# Altium schematic symbol library kmilo17pet-TI_RS232.SchLib: 1272 symbols (part 4 of 37)
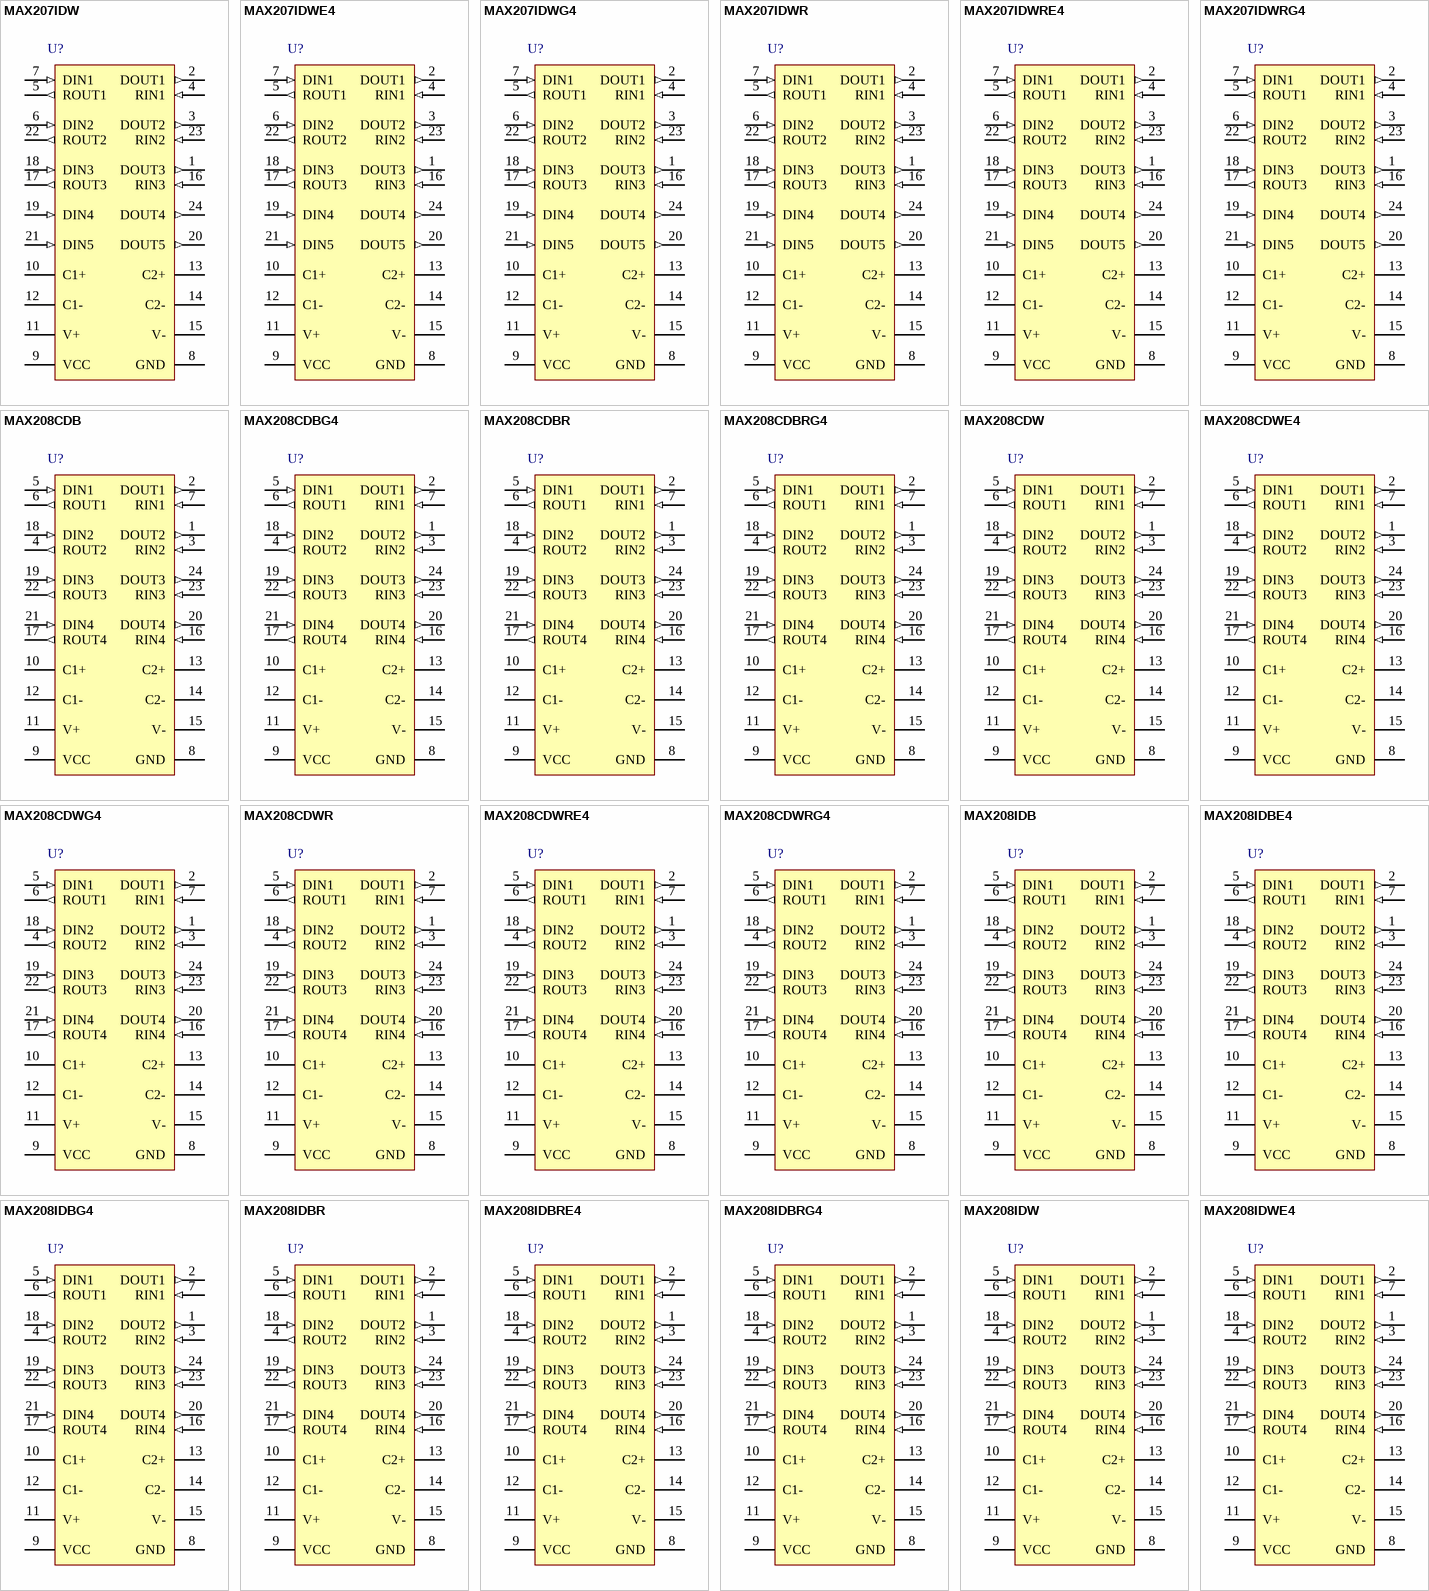
[diagram p57: symbols MAX207IDW to MAX208IDWE4]

## MAX208CDB
designator U?
5-V Multichannel RS-232 Line Driver / Receiver with ±15-kV ESD Protection, 0 to 70 degC, 24-Pin SSOP (DB), Green (RoHS & no Sb/Br); Drivers Per Package: 4; Supply Voltage(s)(V): 5; ESD HBM(kV): +/-15; ICC(Max)(mA): 20; Single Supply: TRUE; DatasheetVersion: SLLS596C; PackageVersion: revE, Dec-2001; PackageReference: DB24; PackageDescription: 24-Pin Plastic Small Outline Package, 8.2 x 5.3 mm Body, 0.65 mm Pitch; SubFamily: RS-232; Receivers Per Package: 4; RS-232: TRUE; ComponentLink1Description: Manufacturer URL; ComponentLink1URL: www.ti.com; ComponentLink2Description: Datasheet; ComponentLink2URL: http://www.ti.com/general/docs/lit/getliterature.tsp?genericPartNumber=MAX208&fileType=pdf; ComponentLink3Description: Package Specification; ComponentLink3URL: http://www.ti.com/litv/pdf/msso002e
footprint TI-DB24_N (SOP, 24-Leads, Body 8.2x5.3mm, Pitch 0.65mm, IPC Medium Density)
footprint TI-DB24_L (SOP, 24-Leads, Body 8.2x5.3mm, Pitch 0.65mm, IPC High Density)
footprint TI-DB24_M (SOP, 24-Leads, Body 8.2x5.3mm, Pitch 0.65mm, IPC Low Density)
pins: 1 DOUT2 (out), 2 DOUT1 (out), 3 RIN2 (in), 4 ROUT2 (out), 5 DIN1 (in), 6 ROUT1 (out), 7 RIN1 (in), 8 GND (power), 9 VCC (power), 10 C1+, 11 V+ (power), 12 C1-, 13 C2+, 14 C2-, 15 V- (power), 16 RIN4 (in), 17 ROUT4 (out), 18 DIN2 (in), 19 DIN3 (in), 20 DOUT4 (out), 21 DIN4 (in), 22 ROUT3 (out), 23 RIN3 (in), 24 DOUT3 (out)

## MAX208CDBG4
designator U?
5-V Multichannel RS-232 Line Driver / Receiver with ±15-kV ESD Protection, 0 to 70 degC, 24-Pin SSOP (DB), Green (RoHS & no Sb/Br); Drivers Per Package: 4; Supply Voltage(s)(V): 5; ESD HBM(kV): +/-15; ICC(Max)(mA): 20; Single Supply: TRUE; DatasheetVersion: SLLS596C; PackageVersion: revE, Dec-2001; PackageReference: DB24; PackageDescription: 24-Pin Plastic Small Outline Package, 8.2 x 5.3 mm Body, 0.65 mm Pitch; SubFamily: RS-232; Receivers Per Package: 4; RS-232: TRUE; ComponentLink1Description: Manufacturer URL; ComponentLink1URL: www.ti.com; ComponentLink2Description: Datasheet; ComponentLink2URL: http://www.ti.com/general/docs/lit/getliterature.tsp?genericPartNumber=MAX208&fileType=pdf; ComponentLink3Description: Package Specification; ComponentLink3URL: http://www.ti.com/litv/pdf/msso002e
footprint TI-DB24_N (SOP, 24-Leads, Body 8.2x5.3mm, Pitch 0.65mm, IPC Medium Density)
footprint TI-DB24_L (SOP, 24-Leads, Body 8.2x5.3mm, Pitch 0.65mm, IPC High Density)
footprint TI-DB24_M (SOP, 24-Leads, Body 8.2x5.3mm, Pitch 0.65mm, IPC Low Density)
pins: 1 DOUT2 (out), 2 DOUT1 (out), 3 RIN2 (in), 4 ROUT2 (out), 5 DIN1 (in), 6 ROUT1 (out), 7 RIN1 (in), 8 GND (power), 9 VCC (power), 10 C1+, 11 V+ (power), 12 C1-, 13 C2+, 14 C2-, 15 V- (power), 16 RIN4 (in), 17 ROUT4 (out), 18 DIN2 (in), 19 DIN3 (in), 20 DOUT4 (out), 21 DIN4 (in), 22 ROUT3 (out), 23 RIN3 (in), 24 DOUT3 (out)

## MAX208CDBR
designator U?
5-V Multichannel RS-232 Line Driver / Receiver with ±15-kV ESD Protection, 0 to 70 degC, 24-Pin SSOP (DB), Green (RoHS & no Sb/Br); Drivers Per Package: 4; Supply Voltage(s)(V): 5; ESD HBM(kV): +/-15; ICC(Max)(mA): 20; Single Supply: TRUE; DatasheetVersion: SLLS596C; PackageVersion: revE, Dec-2001; PackageReference: DB24; PackageDescription: 24-Pin Plastic Small Outline Package, 8.2 x 5.3 mm Body, 0.65 mm Pitch; SubFamily: RS-232; Receivers Per Package: 4; RS-232: TRUE; ComponentLink1Description: Manufacturer URL; ComponentLink1URL: www.ti.com; ComponentLink2Description: Datasheet; ComponentLink2URL: http://www.ti.com/general/docs/lit/getliterature.tsp?genericPartNumber=MAX208&fileType=pdf; ComponentLink3Description: Package Specification; ComponentLink3URL: http://www.ti.com/litv/pdf/msso002e
footprint TI-DB24_N (SOP, 24-Leads, Body 8.2x5.3mm, Pitch 0.65mm, IPC Medium Density)
footprint TI-DB24_L (SOP, 24-Leads, Body 8.2x5.3mm, Pitch 0.65mm, IPC High Density)
footprint TI-DB24_M (SOP, 24-Leads, Body 8.2x5.3mm, Pitch 0.65mm, IPC Low Density)
pins: 1 DOUT2 (out), 2 DOUT1 (out), 3 RIN2 (in), 4 ROUT2 (out), 5 DIN1 (in), 6 ROUT1 (out), 7 RIN1 (in), 8 GND (power), 9 VCC (power), 10 C1+, 11 V+ (power), 12 C1-, 13 C2+, 14 C2-, 15 V- (power), 16 RIN4 (in), 17 ROUT4 (out), 18 DIN2 (in), 19 DIN3 (in), 20 DOUT4 (out), 21 DIN4 (in), 22 ROUT3 (out), 23 RIN3 (in), 24 DOUT3 (out)

## MAX208CDBRG4
designator U?
5-V Multichannel RS-232 Line Driver / Receiver with ±15-kV ESD Protection, 0 to 70 degC, 24-Pin SSOP (DB), Green (RoHS & no Sb/Br); Drivers Per Package: 4; Supply Voltage(s)(V): 5; ESD HBM(kV): +/-15; ICC(Max)(mA): 20; Single Supply: TRUE; DatasheetVersion: SLLS596C; PackageVersion: revE, Dec-2001; PackageReference: DB24; PackageDescription: 24-Pin Plastic Small Outline Package, 8.2 x 5.3 mm Body, 0.65 mm Pitch; SubFamily: RS-232; Receivers Per Package: 4; RS-232: TRUE; ComponentLink1Description: Manufacturer URL; ComponentLink1URL: www.ti.com; ComponentLink2Description: Datasheet; ComponentLink2URL: http://www.ti.com/general/docs/lit/getliterature.tsp?genericPartNumber=MAX208&fileType=pdf; ComponentLink3Description: Package Specification; ComponentLink3URL: http://www.ti.com/litv/pdf/msso002e
footprint TI-DB24_N (SOP, 24-Leads, Body 8.2x5.3mm, Pitch 0.65mm, IPC Medium Density)
footprint TI-DB24_L (SOP, 24-Leads, Body 8.2x5.3mm, Pitch 0.65mm, IPC High Density)
footprint TI-DB24_M (SOP, 24-Leads, Body 8.2x5.3mm, Pitch 0.65mm, IPC Low Density)
pins: 1 DOUT2 (out), 2 DOUT1 (out), 3 RIN2 (in), 4 ROUT2 (out), 5 DIN1 (in), 6 ROUT1 (out), 7 RIN1 (in), 8 GND (power), 9 VCC (power), 10 C1+, 11 V+ (power), 12 C1-, 13 C2+, 14 C2-, 15 V- (power), 16 RIN4 (in), 17 ROUT4 (out), 18 DIN2 (in), 19 DIN3 (in), 20 DOUT4 (out), 21 DIN4 (in), 22 ROUT3 (out), 23 RIN3 (in), 24 DOUT3 (out)

## MAX208CDW
designator U?
5-V Multichannel RS-232 Line Driver / Receiver with ±15-kV ESD Protection, 0 to 70 degC, 24-Pin SOIC (DW), Green (RoHS & no Sb/Br); Drivers Per Package: 4; Supply Voltage(s)(V): 5; ESD HBM(kV): +/-15; ICC(Max)(mA): 20; Single Supply: TRUE; DatasheetVersion: SLLS596C; PackageVersion: revG, Jan-2011; PackageReference: DW24; PackageDescription: 24-Pin Plastic Small Outline Integrated Circuit, 15.4 x 7.5 mm, Pitch 1.27 mm Pitch; SubFamily: RS-232; Receivers Per Package: 4; RS-232: TRUE; ComponentLink1Description: Manufacturer URL; ComponentLink1URL: www.ti.com; ComponentLink2Description: Datasheet; ComponentLink2URL: http://www.ti.com/general/docs/lit/getliterature.tsp?genericPartNumber=MAX208&fileType=pdf; ComponentLink3Description: Package Specification; ComponentLink3URL: http://www.ti.com/litv/pdf/mpds174a
footprint TI-DW24_N (SOIC, 24-Leads, Body 15.4x7.5mm, Pitch 1.27mm, IPC Medium Density)
footprint TI-DW24_L (SOIC, 24-Leads, Body 15.4x7.5mm, Pitch 1.27mm, IPC High Density)
footprint TI-DW24_M (SOIC, 24-Leads, Body 15.4x7.5mm, Pitch 1.27mm, IPC Low Density)
pins: 1 DOUT2 (out), 2 DOUT1 (out), 3 RIN2 (in), 4 ROUT2 (out), 5 DIN1 (in), 6 ROUT1 (out), 7 RIN1 (in), 8 GND (power), 9 VCC (power), 10 C1+, 11 V+ (power), 12 C1-, 13 C2+, 14 C2-, 15 V- (power), 16 RIN4 (in), 17 ROUT4 (out), 18 DIN2 (in), 19 DIN3 (in), 20 DOUT4 (out), 21 DIN4 (in), 22 ROUT3 (out), 23 RIN3 (in), 24 DOUT3 (out)

## MAX208CDWE4
designator U?
5-V Multichannel RS-232 Line Driver / Receiver with ±15-kV ESD Protection, 0 to 70 degC, 24-Pin SOIC (DW), Green (RoHS & no Sb/Br); Drivers Per Package: 4; Supply Voltage(s)(V): 5; ESD HBM(kV): +/-15; ICC(Max)(mA): 20; Single Supply: TRUE; DatasheetVersion: SLLS596C; PackageVersion: revG, Jan-2011; PackageReference: DW24; PackageDescription: 24-Pin Plastic Small Outline Integrated Circuit, 15.4 x 7.5 mm, Pitch 1.27 mm Pitch; SubFamily: RS-232; Receivers Per Package: 4; RS-232: TRUE; ComponentLink1Description: Manufacturer URL; ComponentLink1URL: www.ti.com; ComponentLink2Description: Datasheet; ComponentLink2URL: http://www.ti.com/general/docs/lit/getliterature.tsp?genericPartNumber=MAX208&fileType=pdf; ComponentLink3Description: Package Specification; ComponentLink3URL: http://www.ti.com/litv/pdf/mpds174a
footprint TI-DW24_N (SOIC, 24-Leads, Body 15.4x7.5mm, Pitch 1.27mm, IPC Medium Density)
footprint TI-DW24_L (SOIC, 24-Leads, Body 15.4x7.5mm, Pitch 1.27mm, IPC High Density)
footprint TI-DW24_M (SOIC, 24-Leads, Body 15.4x7.5mm, Pitch 1.27mm, IPC Low Density)
pins: 1 DOUT2 (out), 2 DOUT1 (out), 3 RIN2 (in), 4 ROUT2 (out), 5 DIN1 (in), 6 ROUT1 (out), 7 RIN1 (in), 8 GND (power), 9 VCC (power), 10 C1+, 11 V+ (power), 12 C1-, 13 C2+, 14 C2-, 15 V- (power), 16 RIN4 (in), 17 ROUT4 (out), 18 DIN2 (in), 19 DIN3 (in), 20 DOUT4 (out), 21 DIN4 (in), 22 ROUT3 (out), 23 RIN3 (in), 24 DOUT3 (out)

## MAX208CDWG4
designator U?
5-V Multichannel RS-232 Line Driver / Receiver with ±15-kV ESD Protection, 0 to 70 degC, 24-Pin SOIC (DW), Green (RoHS & no Sb/Br); Drivers Per Package: 4; Supply Voltage(s)(V): 5; ESD HBM(kV): +/-15; ICC(Max)(mA): 20; Single Supply: TRUE; DatasheetVersion: SLLS596C; PackageVersion: revG, Jan-2011; PackageReference: DW24; PackageDescription: 24-Pin Plastic Small Outline Integrated Circuit, 15.4 x 7.5 mm, Pitch 1.27 mm Pitch; SubFamily: RS-232; Receivers Per Package: 4; RS-232: TRUE; ComponentLink1Description: Manufacturer URL; ComponentLink1URL: www.ti.com; ComponentLink2Description: Datasheet; ComponentLink2URL: http://www.ti.com/general/docs/lit/getliterature.tsp?genericPartNumber=MAX208&fileType=pdf; ComponentLink3Description: Package Specification; ComponentLink3URL: http://www.ti.com/litv/pdf/mpds174a
footprint TI-DW24_N (SOIC, 24-Leads, Body 15.4x7.5mm, Pitch 1.27mm, IPC Medium Density)
footprint TI-DW24_L (SOIC, 24-Leads, Body 15.4x7.5mm, Pitch 1.27mm, IPC High Density)
footprint TI-DW24_M (SOIC, 24-Leads, Body 15.4x7.5mm, Pitch 1.27mm, IPC Low Density)
pins: 1 DOUT2 (out), 2 DOUT1 (out), 3 RIN2 (in), 4 ROUT2 (out), 5 DIN1 (in), 6 ROUT1 (out), 7 RIN1 (in), 8 GND (power), 9 VCC (power), 10 C1+, 11 V+ (power), 12 C1-, 13 C2+, 14 C2-, 15 V- (power), 16 RIN4 (in), 17 ROUT4 (out), 18 DIN2 (in), 19 DIN3 (in), 20 DOUT4 (out), 21 DIN4 (in), 22 ROUT3 (out), 23 RIN3 (in), 24 DOUT3 (out)

## MAX208CDWR
designator U?
5-V Multichannel RS-232 Line Driver / Receiver with ±15-kV ESD Protection, 0 to 70 degC, 24-Pin SOIC (DW), Green (RoHS & no Sb/Br); Drivers Per Package: 4; Supply Voltage(s)(V): 5; ESD HBM(kV): +/-15; ICC(Max)(mA): 20; Single Supply: TRUE; DatasheetVersion: SLLS596C; PackageVersion: revG, Jan-2011; PackageReference: DW24; PackageDescription: 24-Pin Plastic Small Outline Integrated Circuit, 15.4 x 7.5 mm, Pitch 1.27 mm Pitch; SubFamily: RS-232; Receivers Per Package: 4; RS-232: TRUE; ComponentLink1Description: Manufacturer URL; ComponentLink1URL: www.ti.com; ComponentLink2Description: Datasheet; ComponentLink2URL: http://www.ti.com/general/docs/lit/getliterature.tsp?genericPartNumber=MAX208&fileType=pdf; ComponentLink3Description: Package Specification; ComponentLink3URL: http://www.ti.com/litv/pdf/mpds174a
footprint TI-DW24_N (SOIC, 24-Leads, Body 15.4x7.5mm, Pitch 1.27mm, IPC Medium Density)
footprint TI-DW24_L (SOIC, 24-Leads, Body 15.4x7.5mm, Pitch 1.27mm, IPC High Density)
footprint TI-DW24_M (SOIC, 24-Leads, Body 15.4x7.5mm, Pitch 1.27mm, IPC Low Density)
pins: 1 DOUT2 (out), 2 DOUT1 (out), 3 RIN2 (in), 4 ROUT2 (out), 5 DIN1 (in), 6 ROUT1 (out), 7 RIN1 (in), 8 GND (power), 9 VCC (power), 10 C1+, 11 V+ (power), 12 C1-, 13 C2+, 14 C2-, 15 V- (power), 16 RIN4 (in), 17 ROUT4 (out), 18 DIN2 (in), 19 DIN3 (in), 20 DOUT4 (out), 21 DIN4 (in), 22 ROUT3 (out), 23 RIN3 (in), 24 DOUT3 (out)

## MAX208CDWRE4
designator U?
5-V Multichannel RS-232 Line Driver / Receiver with ±15-kV ESD Protection, 0 to 70 degC, 24-Pin SOIC (DW), Green (RoHS & no Sb/Br); Drivers Per Package: 4; Supply Voltage(s)(V): 5; ESD HBM(kV): +/-15; ICC(Max)(mA): 20; Single Supply: TRUE; DatasheetVersion: SLLS596C; PackageVersion: revG, Jan-2011; PackageReference: DW24; PackageDescription: 24-Pin Plastic Small Outline Integrated Circuit, 15.4 x 7.5 mm, Pitch 1.27 mm Pitch; SubFamily: RS-232; Receivers Per Package: 4; RS-232: TRUE; ComponentLink1Description: Manufacturer URL; ComponentLink1URL: www.ti.com; ComponentLink2Description: Datasheet; ComponentLink2URL: http://www.ti.com/general/docs/lit/getliterature.tsp?genericPartNumber=MAX208&fileType=pdf; ComponentLink3Description: Package Specification; ComponentLink3URL: http://www.ti.com/litv/pdf/mpds174a
footprint TI-DW24_N (SOIC, 24-Leads, Body 15.4x7.5mm, Pitch 1.27mm, IPC Medium Density)
footprint TI-DW24_L (SOIC, 24-Leads, Body 15.4x7.5mm, Pitch 1.27mm, IPC High Density)
footprint TI-DW24_M (SOIC, 24-Leads, Body 15.4x7.5mm, Pitch 1.27mm, IPC Low Density)
pins: 1 DOUT2 (out), 2 DOUT1 (out), 3 RIN2 (in), 4 ROUT2 (out), 5 DIN1 (in), 6 ROUT1 (out), 7 RIN1 (in), 8 GND (power), 9 VCC (power), 10 C1+, 11 V+ (power), 12 C1-, 13 C2+, 14 C2-, 15 V- (power), 16 RIN4 (in), 17 ROUT4 (out), 18 DIN2 (in), 19 DIN3 (in), 20 DOUT4 (out), 21 DIN4 (in), 22 ROUT3 (out), 23 RIN3 (in), 24 DOUT3 (out)

## MAX208CDWRG4
designator U?
5-V Multichannel RS-232 Line Driver / Receiver with ±15-kV ESD Protection, 0 to 70 degC, 24-Pin SOIC (DW), Green (RoHS & no Sb/Br); Drivers Per Package: 4; Supply Voltage(s)(V): 5; ESD HBM(kV): +/-15; ICC(Max)(mA): 20; Single Supply: TRUE; DatasheetVersion: SLLS596C; PackageVersion: revG, Jan-2011; PackageReference: DW24; PackageDescription: 24-Pin Plastic Small Outline Integrated Circuit, 15.4 x 7.5 mm, Pitch 1.27 mm Pitch; SubFamily: RS-232; Receivers Per Package: 4; RS-232: TRUE; ComponentLink1Description: Manufacturer URL; ComponentLink1URL: www.ti.com; ComponentLink2Description: Datasheet; ComponentLink2URL: http://www.ti.com/general/docs/lit/getliterature.tsp?genericPartNumber=MAX208&fileType=pdf; ComponentLink3Description: Package Specification; ComponentLink3URL: http://www.ti.com/litv/pdf/mpds174a
footprint TI-DW24_N (SOIC, 24-Leads, Body 15.4x7.5mm, Pitch 1.27mm, IPC Medium Density)
footprint TI-DW24_L (SOIC, 24-Leads, Body 15.4x7.5mm, Pitch 1.27mm, IPC High Density)
footprint TI-DW24_M (SOIC, 24-Leads, Body 15.4x7.5mm, Pitch 1.27mm, IPC Low Density)
pins: 1 DOUT2 (out), 2 DOUT1 (out), 3 RIN2 (in), 4 ROUT2 (out), 5 DIN1 (in), 6 ROUT1 (out), 7 RIN1 (in), 8 GND (power), 9 VCC (power), 10 C1+, 11 V+ (power), 12 C1-, 13 C2+, 14 C2-, 15 V- (power), 16 RIN4 (in), 17 ROUT4 (out), 18 DIN2 (in), 19 DIN3 (in), 20 DOUT4 (out), 21 DIN4 (in), 22 ROUT3 (out), 23 RIN3 (in), 24 DOUT3 (out)

## MAX208IDB
designator U?
5-V Multichannel RS-232 Line Driver / Receiver with ±15-kV ESD Protection, -40 to 85 degC, 24-Pin SSOP (DB), Green (RoHS & no Sb/Br); Drivers Per Package: 4; Supply Voltage(s)(V): 5; ESD HBM(kV): +/-15; ICC(Max)(mA): 20; Single Supply: TRUE; DatasheetVersion: SLLS596C; PackageVersion: revE, Dec-2001; PackageReference: DB24; PackageDescription: 24-Pin Plastic Small Outline Package, 8.2 x 5.3 mm Body, 0.65 mm Pitch; SubFamily: RS-232; Receivers Per Package: 4; RS-232: TRUE; ComponentLink1Description: Manufacturer URL; ComponentLink1URL: www.ti.com; ComponentLink2Description: Datasheet; ComponentLink2URL: http://www.ti.com/general/docs/lit/getliterature.tsp?genericPartNumber=MAX208&fileType=pdf; ComponentLink3Description: Package Specification; ComponentLink3URL: http://www.ti.com/litv/pdf/msso002e
footprint TI-DB24_N (SOP, 24-Leads, Body 8.2x5.3mm, Pitch 0.65mm, IPC Medium Density)
footprint TI-DB24_L (SOP, 24-Leads, Body 8.2x5.3mm, Pitch 0.65mm, IPC High Density)
footprint TI-DB24_M (SOP, 24-Leads, Body 8.2x5.3mm, Pitch 0.65mm, IPC Low Density)
pins: 1 DOUT2 (out), 2 DOUT1 (out), 3 RIN2 (in), 4 ROUT2 (out), 5 DIN1 (in), 6 ROUT1 (out), 7 RIN1 (in), 8 GND (power), 9 VCC (power), 10 C1+, 11 V+ (power), 12 C1-, 13 C2+, 14 C2-, 15 V- (power), 16 RIN4 (in), 17 ROUT4 (out), 18 DIN2 (in), 19 DIN3 (in), 20 DOUT4 (out), 21 DIN4 (in), 22 ROUT3 (out), 23 RIN3 (in), 24 DOUT3 (out)

## MAX208IDBE4
designator U?
5-V Multichannel RS-232 Line Driver / Receiver with ±15-kV ESD Protection, -40 to 85 degC, 24-Pin SSOP (DB), Green (RoHS & no Sb/Br); Drivers Per Package: 4; Supply Voltage(s)(V): 5; ESD HBM(kV): +/-15; ICC(Max)(mA): 20; Single Supply: TRUE; DatasheetVersion: SLLS596C; PackageVersion: revE, Dec-2001; PackageReference: DB24; PackageDescription: 24-Pin Plastic Small Outline Package, 8.2 x 5.3 mm Body, 0.65 mm Pitch; SubFamily: RS-232; Receivers Per Package: 4; RS-232: TRUE; ComponentLink1Description: Manufacturer URL; ComponentLink1URL: www.ti.com; ComponentLink2Description: Datasheet; ComponentLink2URL: http://www.ti.com/general/docs/lit/getliterature.tsp?genericPartNumber=MAX208&fileType=pdf; ComponentLink3Description: Package Specification; ComponentLink3URL: http://www.ti.com/litv/pdf/msso002e
footprint TI-DB24_N (SOP, 24-Leads, Body 8.2x5.3mm, Pitch 0.65mm, IPC Medium Density)
footprint TI-DB24_L (SOP, 24-Leads, Body 8.2x5.3mm, Pitch 0.65mm, IPC High Density)
footprint TI-DB24_M (SOP, 24-Leads, Body 8.2x5.3mm, Pitch 0.65mm, IPC Low Density)
pins: 1 DOUT2 (out), 2 DOUT1 (out), 3 RIN2 (in), 4 ROUT2 (out), 5 DIN1 (in), 6 ROUT1 (out), 7 RIN1 (in), 8 GND (power), 9 VCC (power), 10 C1+, 11 V+ (power), 12 C1-, 13 C2+, 14 C2-, 15 V- (power), 16 RIN4 (in), 17 ROUT4 (out), 18 DIN2 (in), 19 DIN3 (in), 20 DOUT4 (out), 21 DIN4 (in), 22 ROUT3 (out), 23 RIN3 (in), 24 DOUT3 (out)

## MAX208IDBG4
designator U?
5-V Multichannel RS-232 Line Driver / Receiver with ±15-kV ESD Protection, -40 to 85 degC, 24-Pin SSOP (DB), Green (RoHS & no Sb/Br); Drivers Per Package: 4; Supply Voltage(s)(V): 5; ESD HBM(kV): +/-15; ICC(Max)(mA): 20; Single Supply: TRUE; DatasheetVersion: SLLS596C; PackageVersion: revE, Dec-2001; PackageReference: DB24; PackageDescription: 24-Pin Plastic Small Outline Package, 8.2 x 5.3 mm Body, 0.65 mm Pitch; SubFamily: RS-232; Receivers Per Package: 4; RS-232: TRUE; ComponentLink1Description: Manufacturer URL; ComponentLink1URL: www.ti.com; ComponentLink2Description: Datasheet; ComponentLink2URL: http://www.ti.com/general/docs/lit/getliterature.tsp?genericPartNumber=MAX208&fileType=pdf; ComponentLink3Description: Package Specification; ComponentLink3URL: http://www.ti.com/litv/pdf/msso002e
footprint TI-DB24_N (SOP, 24-Leads, Body 8.2x5.3mm, Pitch 0.65mm, IPC Medium Density)
footprint TI-DB24_L (SOP, 24-Leads, Body 8.2x5.3mm, Pitch 0.65mm, IPC High Density)
footprint TI-DB24_M (SOP, 24-Leads, Body 8.2x5.3mm, Pitch 0.65mm, IPC Low Density)
pins: 1 DOUT2 (out), 2 DOUT1 (out), 3 RIN2 (in), 4 ROUT2 (out), 5 DIN1 (in), 6 ROUT1 (out), 7 RIN1 (in), 8 GND (power), 9 VCC (power), 10 C1+, 11 V+ (power), 12 C1-, 13 C2+, 14 C2-, 15 V- (power), 16 RIN4 (in), 17 ROUT4 (out), 18 DIN2 (in), 19 DIN3 (in), 20 DOUT4 (out), 21 DIN4 (in), 22 ROUT3 (out), 23 RIN3 (in), 24 DOUT3 (out)

## MAX208IDBR
designator U?
5-V Multichannel RS-232 Line Driver / Receiver with ±15-kV ESD Protection, -40 to 85 degC, 24-Pin SSOP (DB), Green (RoHS & no Sb/Br); Drivers Per Package: 4; Supply Voltage(s)(V): 5; ESD HBM(kV): +/-15; ICC(Max)(mA): 20; Single Supply: TRUE; DatasheetVersion: SLLS596C; PackageVersion: revE, Dec-2001; PackageReference: DB24; PackageDescription: 24-Pin Plastic Small Outline Package, 8.2 x 5.3 mm Body, 0.65 mm Pitch; SubFamily: RS-232; Receivers Per Package: 4; RS-232: TRUE; ComponentLink1Description: Manufacturer URL; ComponentLink1URL: www.ti.com; ComponentLink2Description: Datasheet; ComponentLink2URL: http://www.ti.com/general/docs/lit/getliterature.tsp?genericPartNumber=MAX208&fileType=pdf; ComponentLink3Description: Package Specification; ComponentLink3URL: http://www.ti.com/litv/pdf/msso002e
footprint TI-DB24_N (SOP, 24-Leads, Body 8.2x5.3mm, Pitch 0.65mm, IPC Medium Density)
footprint TI-DB24_L (SOP, 24-Leads, Body 8.2x5.3mm, Pitch 0.65mm, IPC High Density)
footprint TI-DB24_M (SOP, 24-Leads, Body 8.2x5.3mm, Pitch 0.65mm, IPC Low Density)
pins: 1 DOUT2 (out), 2 DOUT1 (out), 3 RIN2 (in), 4 ROUT2 (out), 5 DIN1 (in), 6 ROUT1 (out), 7 RIN1 (in), 8 GND (power), 9 VCC (power), 10 C1+, 11 V+ (power), 12 C1-, 13 C2+, 14 C2-, 15 V- (power), 16 RIN4 (in), 17 ROUT4 (out), 18 DIN2 (in), 19 DIN3 (in), 20 DOUT4 (out), 21 DIN4 (in), 22 ROUT3 (out), 23 RIN3 (in), 24 DOUT3 (out)

## MAX208IDBRE4
designator U?
5-V Multichannel RS-232 Line Driver / Receiver with ±15-kV ESD Protection, -40 to 85 degC, 24-Pin SSOP (DB), Green (RoHS & no Sb/Br); Drivers Per Package: 4; Supply Voltage(s)(V): 5; ESD HBM(kV): +/-15; ICC(Max)(mA): 20; Single Supply: TRUE; DatasheetVersion: SLLS596C; PackageVersion: revE, Dec-2001; PackageReference: DB24; PackageDescription: 24-Pin Plastic Small Outline Package, 8.2 x 5.3 mm Body, 0.65 mm Pitch; SubFamily: RS-232; Receivers Per Package: 4; RS-232: TRUE; ComponentLink1Description: Manufacturer URL; ComponentLink1URL: www.ti.com; ComponentLink2Description: Datasheet; ComponentLink2URL: http://www.ti.com/general/docs/lit/getliterature.tsp?genericPartNumber=MAX208&fileType=pdf; ComponentLink3Description: Package Specification; ComponentLink3URL: http://www.ti.com/litv/pdf/msso002e
footprint TI-DB24_N (SOP, 24-Leads, Body 8.2x5.3mm, Pitch 0.65mm, IPC Medium Density)
footprint TI-DB24_L (SOP, 24-Leads, Body 8.2x5.3mm, Pitch 0.65mm, IPC High Density)
footprint TI-DB24_M (SOP, 24-Leads, Body 8.2x5.3mm, Pitch 0.65mm, IPC Low Density)
pins: 1 DOUT2 (out), 2 DOUT1 (out), 3 RIN2 (in), 4 ROUT2 (out), 5 DIN1 (in), 6 ROUT1 (out), 7 RIN1 (in), 8 GND (power), 9 VCC (power), 10 C1+, 11 V+ (power), 12 C1-, 13 C2+, 14 C2-, 15 V- (power), 16 RIN4 (in), 17 ROUT4 (out), 18 DIN2 (in), 19 DIN3 (in), 20 DOUT4 (out), 21 DIN4 (in), 22 ROUT3 (out), 23 RIN3 (in), 24 DOUT3 (out)

## MAX208IDBRG4
designator U?
5-V Multichannel RS-232 Line Driver / Receiver with ±15-kV ESD Protection, -40 to 85 degC, 24-Pin SSOP (DB), Green (RoHS & no Sb/Br); Drivers Per Package: 4; Supply Voltage(s)(V): 5; ESD HBM(kV): +/-15; ICC(Max)(mA): 20; Single Supply: TRUE; DatasheetVersion: SLLS596C; PackageVersion: revE, Dec-2001; PackageReference: DB24; PackageDescription: 24-Pin Plastic Small Outline Package, 8.2 x 5.3 mm Body, 0.65 mm Pitch; SubFamily: RS-232; Receivers Per Package: 4; RS-232: TRUE; ComponentLink1Description: Manufacturer URL; ComponentLink1URL: www.ti.com; ComponentLink2Description: Datasheet; ComponentLink2URL: http://www.ti.com/general/docs/lit/getliterature.tsp?genericPartNumber=MAX208&fileType=pdf; ComponentLink3Description: Package Specification; ComponentLink3URL: http://www.ti.com/litv/pdf/msso002e
footprint TI-DB24_N (SOP, 24-Leads, Body 8.2x5.3mm, Pitch 0.65mm, IPC Medium Density)
footprint TI-DB24_L (SOP, 24-Leads, Body 8.2x5.3mm, Pitch 0.65mm, IPC High Density)
footprint TI-DB24_M (SOP, 24-Leads, Body 8.2x5.3mm, Pitch 0.65mm, IPC Low Density)
pins: 1 DOUT2 (out), 2 DOUT1 (out), 3 RIN2 (in), 4 ROUT2 (out), 5 DIN1 (in), 6 ROUT1 (out), 7 RIN1 (in), 8 GND (power), 9 VCC (power), 10 C1+, 11 V+ (power), 12 C1-, 13 C2+, 14 C2-, 15 V- (power), 16 RIN4 (in), 17 ROUT4 (out), 18 DIN2 (in), 19 DIN3 (in), 20 DOUT4 (out), 21 DIN4 (in), 22 ROUT3 (out), 23 RIN3 (in), 24 DOUT3 (out)

## MAX208IDW
designator U?
5-V Multichannel RS-232 Line Driver / Receiver with ±15-kV ESD Protection, -40 to 85 degC, 24-Pin SOIC (DW), Green (RoHS & no Sb/Br); Drivers Per Package: 4; Supply Voltage(s)(V): 5; ESD HBM(kV): +/-15; ICC(Max)(mA): 20; Single Supply: TRUE; DatasheetVersion: SLLS596C; PackageVersion: revG, Jan-2011; PackageReference: DW24; PackageDescription: 24-Pin Plastic Small Outline Integrated Circuit, 15.4 x 7.5 mm, Pitch 1.27 mm Pitch; SubFamily: RS-232; Receivers Per Package: 4; RS-232: TRUE; ComponentLink1Description: Manufacturer URL; ComponentLink1URL: www.ti.com; ComponentLink2Description: Datasheet; ComponentLink2URL: http://www.ti.com/general/docs/lit/getliterature.tsp?genericPartNumber=MAX208&fileType=pdf; ComponentLink3Description: Package Specification; ComponentLink3URL: http://www.ti.com/litv/pdf/mpds174a
footprint TI-DW24_N (SOIC, 24-Leads, Body 15.4x7.5mm, Pitch 1.27mm, IPC Medium Density)
footprint TI-DW24_L (SOIC, 24-Leads, Body 15.4x7.5mm, Pitch 1.27mm, IPC High Density)
footprint TI-DW24_M (SOIC, 24-Leads, Body 15.4x7.5mm, Pitch 1.27mm, IPC Low Density)
pins: 1 DOUT2 (out), 2 DOUT1 (out), 3 RIN2 (in), 4 ROUT2 (out), 5 DIN1 (in), 6 ROUT1 (out), 7 RIN1 (in), 8 GND (power), 9 VCC (power), 10 C1+, 11 V+ (power), 12 C1-, 13 C2+, 14 C2-, 15 V- (power), 16 RIN4 (in), 17 ROUT4 (out), 18 DIN2 (in), 19 DIN3 (in), 20 DOUT4 (out), 21 DIN4 (in), 22 ROUT3 (out), 23 RIN3 (in), 24 DOUT3 (out)

## MAX208IDWE4
designator U?
5-V Multichannel RS-232 Line Driver / Receiver with ±15-kV ESD Protection, -40 to 85 degC, 24-Pin SOIC (DW), Green (RoHS & no Sb/Br); Drivers Per Package: 4; Supply Voltage(s)(V): 5; ESD HBM(kV): +/-15; ICC(Max)(mA): 20; Single Supply: TRUE; DatasheetVersion: SLLS596C; PackageVersion: revG, Jan-2011; PackageReference: DW24; PackageDescription: 24-Pin Plastic Small Outline Integrated Circuit, 15.4 x 7.5 mm, Pitch 1.27 mm Pitch; SubFamily: RS-232; Receivers Per Package: 4; RS-232: TRUE; ComponentLink1Description: Manufacturer URL; ComponentLink1URL: www.ti.com; ComponentLink2Description: Datasheet; ComponentLink2URL: http://www.ti.com/general/docs/lit/getliterature.tsp?genericPartNumber=MAX208&fileType=pdf; ComponentLink3Description: Package Specification; ComponentLink3URL: http://www.ti.com/litv/pdf/mpds174a
footprint TI-DW24_N (SOIC, 24-Leads, Body 15.4x7.5mm, Pitch 1.27mm, IPC Medium Density)
footprint TI-DW24_L (SOIC, 24-Leads, Body 15.4x7.5mm, Pitch 1.27mm, IPC High Density)
footprint TI-DW24_M (SOIC, 24-Leads, Body 15.4x7.5mm, Pitch 1.27mm, IPC Low Density)
pins: 1 DOUT2 (out), 2 DOUT1 (out), 3 RIN2 (in), 4 ROUT2 (out), 5 DIN1 (in), 6 ROUT1 (out), 7 RIN1 (in), 8 GND (power), 9 VCC (power), 10 C1+, 11 V+ (power), 12 C1-, 13 C2+, 14 C2-, 15 V- (power), 16 RIN4 (in), 17 ROUT4 (out), 18 DIN2 (in), 19 DIN3 (in), 20 DOUT4 (out), 21 DIN4 (in), 22 ROUT3 (out), 23 RIN3 (in), 24 DOUT3 (out)

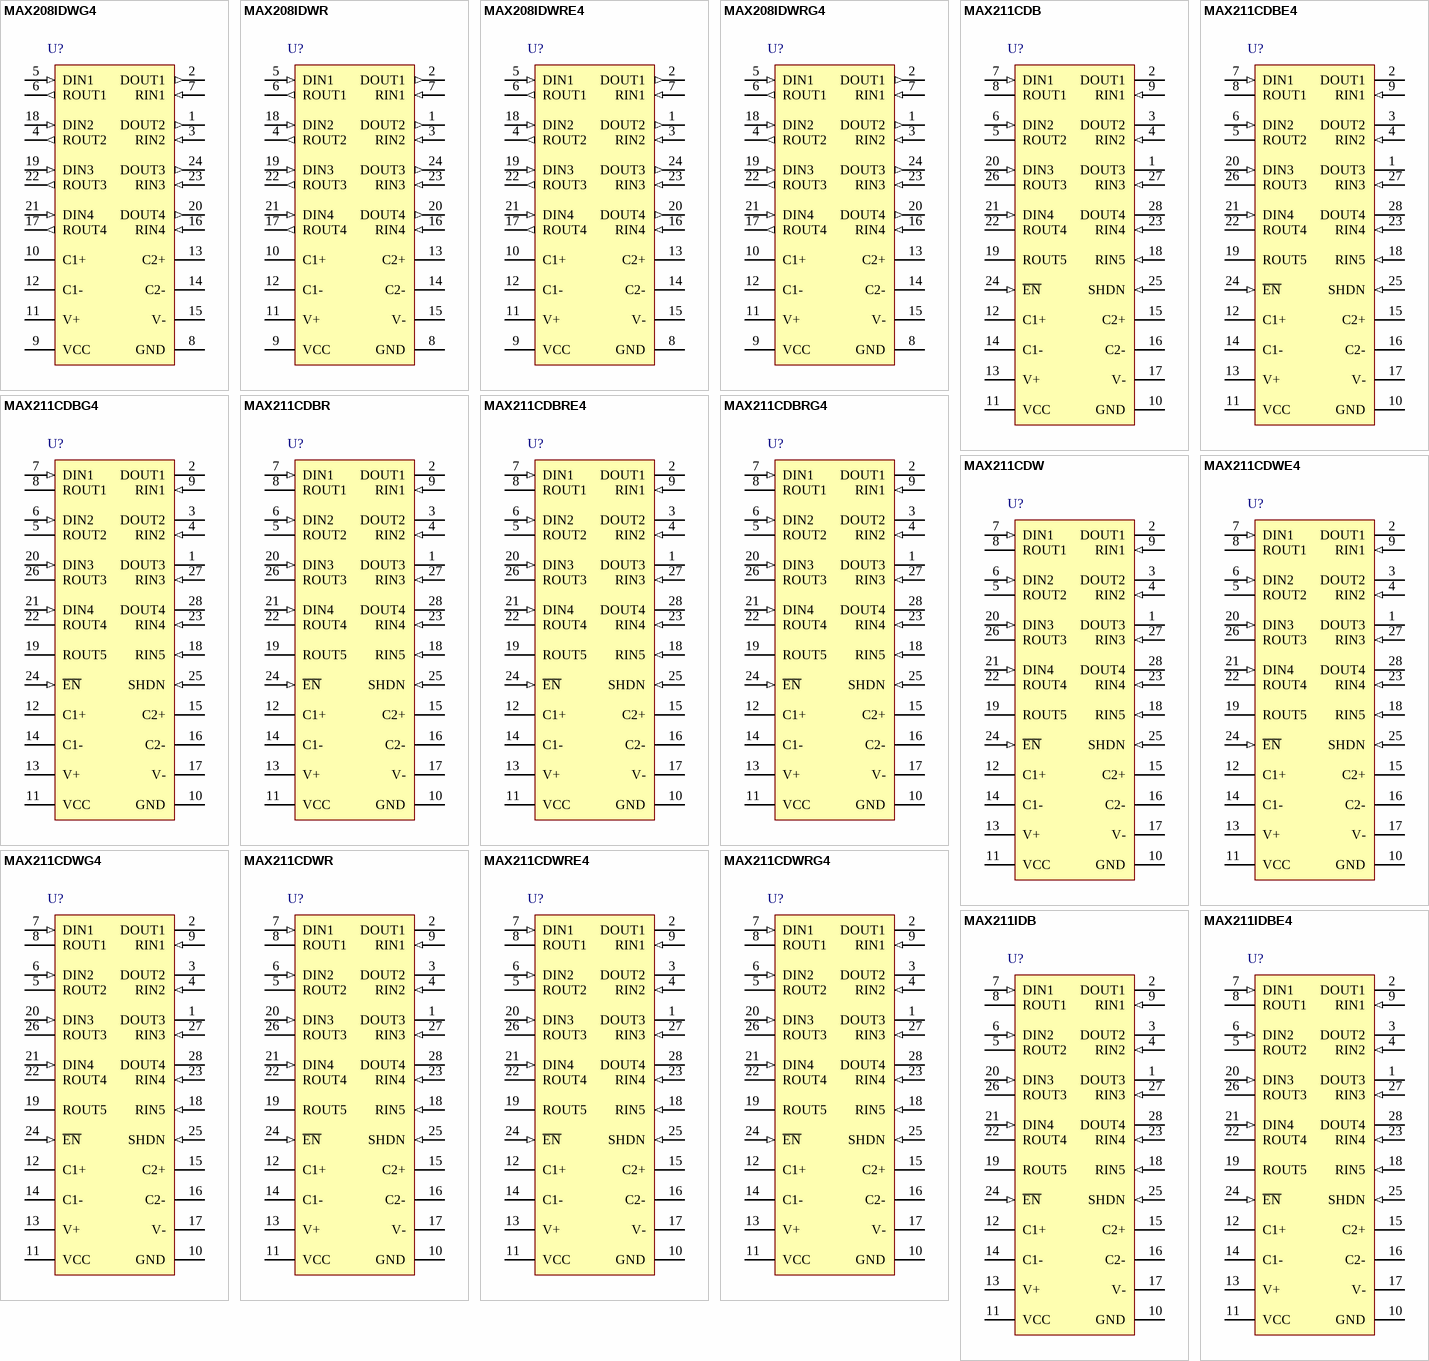
[diagram p5: symbols MAX208IDWG4 to MAX211IDBE4]

## MAX208IDWG4
designator U?
5-V Multichannel RS-232 Line Driver / Receiver with ±15-kV ESD Protection, -40 to 85 degC, 24-Pin SOIC (DW), Green (RoHS & no Sb/Br); Drivers Per Package: 4; Supply Voltage(s)(V): 5; ESD HBM(kV): +/-15; ICC(Max)(mA): 20; Single Supply: TRUE; DatasheetVersion: SLLS596C; PackageVersion: revG, Jan-2011; PackageReference: DW24; PackageDescription: 24-Pin Plastic Small Outline Integrated Circuit, 15.4 x 7.5 mm, Pitch 1.27 mm Pitch; SubFamily: RS-232; Receivers Per Package: 4; RS-232: TRUE; ComponentLink1Description: Manufacturer URL; ComponentLink1URL: www.ti.com; ComponentLink2Description: Datasheet; ComponentLink2URL: http://www.ti.com/general/docs/lit/getliterature.tsp?genericPartNumber=MAX208&fileType=pdf; ComponentLink3Description: Package Specification; ComponentLink3URL: http://www.ti.com/litv/pdf/mpds174a
footprint TI-DW24_N (SOIC, 24-Leads, Body 15.4x7.5mm, Pitch 1.27mm, IPC Medium Density)
footprint TI-DW24_L (SOIC, 24-Leads, Body 15.4x7.5mm, Pitch 1.27mm, IPC High Density)
footprint TI-DW24_M (SOIC, 24-Leads, Body 15.4x7.5mm, Pitch 1.27mm, IPC Low Density)
pins: 1 DOUT2 (out), 2 DOUT1 (out), 3 RIN2 (in), 4 ROUT2 (out), 5 DIN1 (in), 6 ROUT1 (out), 7 RIN1 (in), 8 GND (power), 9 VCC (power), 10 C1+, 11 V+ (power), 12 C1-, 13 C2+, 14 C2-, 15 V- (power), 16 RIN4 (in), 17 ROUT4 (out), 18 DIN2 (in), 19 DIN3 (in), 20 DOUT4 (out), 21 DIN4 (in), 22 ROUT3 (out), 23 RIN3 (in), 24 DOUT3 (out)

## MAX208IDWR
designator U?
5-V Multichannel RS-232 Line Driver / Receiver with ±15-kV ESD Protection, -40 to 85 degC, 24-Pin SOIC (DW), Green (RoHS & no Sb/Br); Drivers Per Package: 4; Supply Voltage(s)(V): 5; ESD HBM(kV): +/-15; ICC(Max)(mA): 20; Single Supply: TRUE; DatasheetVersion: SLLS596C; PackageVersion: revG, Jan-2011; PackageReference: DW24; PackageDescription: 24-Pin Plastic Small Outline Integrated Circuit, 15.4 x 7.5 mm, Pitch 1.27 mm Pitch; SubFamily: RS-232; Receivers Per Package: 4; RS-232: TRUE; ComponentLink1Description: Manufacturer URL; ComponentLink1URL: www.ti.com; ComponentLink2Description: Datasheet; ComponentLink2URL: http://www.ti.com/general/docs/lit/getliterature.tsp?genericPartNumber=MAX208&fileType=pdf; ComponentLink3Description: Package Specification; ComponentLink3URL: http://www.ti.com/litv/pdf/mpds174a
footprint TI-DW24_N (SOIC, 24-Leads, Body 15.4x7.5mm, Pitch 1.27mm, IPC Medium Density)
footprint TI-DW24_L (SOIC, 24-Leads, Body 15.4x7.5mm, Pitch 1.27mm, IPC High Density)
footprint TI-DW24_M (SOIC, 24-Leads, Body 15.4x7.5mm, Pitch 1.27mm, IPC Low Density)
pins: 1 DOUT2 (out), 2 DOUT1 (out), 3 RIN2 (in), 4 ROUT2 (out), 5 DIN1 (in), 6 ROUT1 (out), 7 RIN1 (in), 8 GND (power), 9 VCC (power), 10 C1+, 11 V+ (power), 12 C1-, 13 C2+, 14 C2-, 15 V- (power), 16 RIN4 (in), 17 ROUT4 (out), 18 DIN2 (in), 19 DIN3 (in), 20 DOUT4 (out), 21 DIN4 (in), 22 ROUT3 (out), 23 RIN3 (in), 24 DOUT3 (out)

## MAX208IDWRE4
designator U?
5-V Multichannel RS-232 Line Driver / Receiver with ±15-kV ESD Protection, -40 to 85 degC, 24-Pin SOIC (DW), Green (RoHS & no Sb/Br); Drivers Per Package: 4; Supply Voltage(s)(V): 5; ESD HBM(kV): +/-15; ICC(Max)(mA): 20; Single Supply: TRUE; DatasheetVersion: SLLS596C; PackageVersion: revG, Jan-2011; PackageReference: DW24; PackageDescription: 24-Pin Plastic Small Outline Integrated Circuit, 15.4 x 7.5 mm, Pitch 1.27 mm Pitch; SubFamily: RS-232; Receivers Per Package: 4; RS-232: TRUE; ComponentLink1Description: Manufacturer URL; ComponentLink1URL: www.ti.com; ComponentLink2Description: Datasheet; ComponentLink2URL: http://www.ti.com/general/docs/lit/getliterature.tsp?genericPartNumber=MAX208&fileType=pdf; ComponentLink3Description: Package Specification; ComponentLink3URL: http://www.ti.com/litv/pdf/mpds174a
footprint TI-DW24_N (SOIC, 24-Leads, Body 15.4x7.5mm, Pitch 1.27mm, IPC Medium Density)
footprint TI-DW24_L (SOIC, 24-Leads, Body 15.4x7.5mm, Pitch 1.27mm, IPC High Density)
footprint TI-DW24_M (SOIC, 24-Leads, Body 15.4x7.5mm, Pitch 1.27mm, IPC Low Density)
pins: 1 DOUT2 (out), 2 DOUT1 (out), 3 RIN2 (in), 4 ROUT2 (out), 5 DIN1 (in), 6 ROUT1 (out), 7 RIN1 (in), 8 GND (power), 9 VCC (power), 10 C1+, 11 V+ (power), 12 C1-, 13 C2+, 14 C2-, 15 V- (power), 16 RIN4 (in), 17 ROUT4 (out), 18 DIN2 (in), 19 DIN3 (in), 20 DOUT4 (out), 21 DIN4 (in), 22 ROUT3 (out), 23 RIN3 (in), 24 DOUT3 (out)

## MAX208IDWRG4
designator U?
5-V Multichannel RS-232 Line Driver / Receiver with ±15-kV ESD Protection, -40 to 85 degC, 24-Pin SOIC (DW), Green (RoHS & no Sb/Br); Drivers Per Package: 4; Supply Voltage(s)(V): 5; ESD HBM(kV): +/-15; ICC(Max)(mA): 20; Single Supply: TRUE; DatasheetVersion: SLLS596C; PackageVersion: revG, Jan-2011; PackageReference: DW24; PackageDescription: 24-Pin Plastic Small Outline Integrated Circuit, 15.4 x 7.5 mm, Pitch 1.27 mm Pitch; SubFamily: RS-232; Receivers Per Package: 4; RS-232: TRUE; ComponentLink1Description: Manufacturer URL; ComponentLink1URL: www.ti.com; ComponentLink2Description: Datasheet; ComponentLink2URL: http://www.ti.com/general/docs/lit/getliterature.tsp?genericPartNumber=MAX208&fileType=pdf; ComponentLink3Description: Package Specification; ComponentLink3URL: http://www.ti.com/litv/pdf/mpds174a
footprint TI-DW24_N (SOIC, 24-Leads, Body 15.4x7.5mm, Pitch 1.27mm, IPC Medium Density)
footprint TI-DW24_L (SOIC, 24-Leads, Body 15.4x7.5mm, Pitch 1.27mm, IPC High Density)
footprint TI-DW24_M (SOIC, 24-Leads, Body 15.4x7.5mm, Pitch 1.27mm, IPC Low Density)
pins: 1 DOUT2 (out), 2 DOUT1 (out), 3 RIN2 (in), 4 ROUT2 (out), 5 DIN1 (in), 6 ROUT1 (out), 7 RIN1 (in), 8 GND (power), 9 VCC (power), 10 C1+, 11 V+ (power), 12 C1-, 13 C2+, 14 C2-, 15 V- (power), 16 RIN4 (in), 17 ROUT4 (out), 18 DIN2 (in), 19 DIN3 (in), 20 DOUT4 (out), 21 DIN4 (in), 22 ROUT3 (out), 23 RIN3 (in), 24 DOUT3 (out)

## MAX211CDB
designator U?
5-V Multichannel RS-232 Line Driver / Receiver with ±15-kV ESD Protection, 0 to 70 degC, 28-Pin SSOP (DB), Green (RoHS & no Sb/Br); Drivers Per Package: 4; Receivers Per Package: 5; ESD HBM(kV): +/-15; ICC(Max)(mA): 20; Single Supply: TRUE; DatasheetVersion: SLLS567E; PackageVersion: revE, Dec-2001; PackageReference: DB28; PackageDescription: 28-Pin Plastic Small Outline Package, 10.2 x 5.3 mm Body, 0.65 mm Pitch; SubFamily: RS-232; Supply Voltage(s)(V): 5; RS-232: TRUE; ComponentLink1Description: Manufacturer URL; ComponentLink1URL: www.ti.com; ComponentLink2Description: Datasheet; ComponentLink2URL: http://www.ti.com/general/docs/lit/getliterature.tsp?genericPartNumber=MAX211&fileType=pdf; ComponentLink3Description: Package Specification; ComponentLink3URL: http://www.ti.com/litv/pdf/msso002e
footprint TI-DB28_N (SOP, 28-Leads, Body 10.2x5.3mm, Pitch 0.65mm, IPC Medium Density)
footprint TI-DB28_L (SOP, 28-Leads, Body 10.2x5.3mm, Pitch 0.65mm, IPC High Density)
footprint TI-DB28_M (SOP, 28-Leads, Body 10.2x5.3mm, Pitch 0.65mm, IPC Low Density)
pins: 1 DOUT3 (hiz), 2 DOUT1 (hiz), 3 DOUT2 (hiz), 4 RIN2 (in), 5 ROUT2 (hiz), 6 DIN2 (in), 7 DIN1 (in), 8 ROUT1 (hiz), 9 RIN1 (in), 10 GND (power), 11 VCC (power), 12 C1+, 13 V+ (power), 14 C1-, 15 C2+, 16 C2-, 17 V- (power), 18 RIN5 (in), 19 ROUT5 (hiz), 20 DIN3 (in), 21 DIN4 (in), 22 ROUT4 (hiz), 23 RIN4 (in), 24 ~{EN} (in), 25 SHDN (in), 26 ROUT3 (hiz), 27 RIN3 (in), 28 DOUT4 (hiz)

## MAX211CDBE4
designator U?
5-V Multichannel RS-232 Line Driver / Receiver with ±15-kV ESD Protection, 0 to 70 degC, 28-Pin SSOP (DB), Green (RoHS & no Sb/Br); Drivers Per Package: 4; Receivers Per Package: 5; ESD HBM(kV): +/-15; ICC(Max)(mA): 20; Single Supply: TRUE; DatasheetVersion: SLLS567E; PackageVersion: revE, Dec-2001; PackageReference: DB28; PackageDescription: 28-Pin Plastic Small Outline Package, 10.2 x 5.3 mm Body, 0.65 mm Pitch; SubFamily: RS-232; Supply Voltage(s)(V): 5; RS-232: TRUE; ComponentLink1Description: Manufacturer URL; ComponentLink1URL: www.ti.com; ComponentLink2Description: Datasheet; ComponentLink2URL: http://www.ti.com/general/docs/lit/getliterature.tsp?genericPartNumber=MAX211&fileType=pdf; ComponentLink3Description: Package Specification; ComponentLink3URL: http://www.ti.com/litv/pdf/msso002e
footprint TI-DB28_N (SOP, 28-Leads, Body 10.2x5.3mm, Pitch 0.65mm, IPC Medium Density)
footprint TI-DB28_L (SOP, 28-Leads, Body 10.2x5.3mm, Pitch 0.65mm, IPC High Density)
footprint TI-DB28_M (SOP, 28-Leads, Body 10.2x5.3mm, Pitch 0.65mm, IPC Low Density)
pins: 1 DOUT3 (hiz), 2 DOUT1 (hiz), 3 DOUT2 (hiz), 4 RIN2 (in), 5 ROUT2 (hiz), 6 DIN2 (in), 7 DIN1 (in), 8 ROUT1 (hiz), 9 RIN1 (in), 10 GND (power), 11 VCC (power), 12 C1+, 13 V+ (power), 14 C1-, 15 C2+, 16 C2-, 17 V- (power), 18 RIN5 (in), 19 ROUT5 (hiz), 20 DIN3 (in), 21 DIN4 (in), 22 ROUT4 (hiz), 23 RIN4 (in), 24 ~{EN} (in), 25 SHDN (in), 26 ROUT3 (hiz), 27 RIN3 (in), 28 DOUT4 (hiz)

## MAX211CDBG4
designator U?
5-V Multichannel RS-232 Line Driver / Receiver with ±15-kV ESD Protection, 0 to 70 degC, 28-Pin SSOP (DB), Green (RoHS & no Sb/Br); Drivers Per Package: 4; Receivers Per Package: 5; ESD HBM(kV): +/-15; ICC(Max)(mA): 20; Single Supply: TRUE; DatasheetVersion: SLLS567E; PackageVersion: revE, Dec-2001; PackageReference: DB28; PackageDescription: 28-Pin Plastic Small Outline Package, 10.2 x 5.3 mm Body, 0.65 mm Pitch; SubFamily: RS-232; Supply Voltage(s)(V): 5; RS-232: TRUE; ComponentLink1Description: Manufacturer URL; ComponentLink1URL: www.ti.com; ComponentLink2Description: Datasheet; ComponentLink2URL: http://www.ti.com/general/docs/lit/getliterature.tsp?genericPartNumber=MAX211&fileType=pdf; ComponentLink3Description: Package Specification; ComponentLink3URL: http://www.ti.com/litv/pdf/msso002e
footprint TI-DB28_N (SOP, 28-Leads, Body 10.2x5.3mm, Pitch 0.65mm, IPC Medium Density)
footprint TI-DB28_L (SOP, 28-Leads, Body 10.2x5.3mm, Pitch 0.65mm, IPC High Density)
footprint TI-DB28_M (SOP, 28-Leads, Body 10.2x5.3mm, Pitch 0.65mm, IPC Low Density)
pins: 1 DOUT3 (hiz), 2 DOUT1 (hiz), 3 DOUT2 (hiz), 4 RIN2 (in), 5 ROUT2 (hiz), 6 DIN2 (in), 7 DIN1 (in), 8 ROUT1 (hiz), 9 RIN1 (in), 10 GND (power), 11 VCC (power), 12 C1+, 13 V+ (power), 14 C1-, 15 C2+, 16 C2-, 17 V- (power), 18 RIN5 (in), 19 ROUT5 (hiz), 20 DIN3 (in), 21 DIN4 (in), 22 ROUT4 (hiz), 23 RIN4 (in), 24 ~{EN} (in), 25 SHDN (in), 26 ROUT3 (hiz), 27 RIN3 (in), 28 DOUT4 (hiz)

## MAX211CDBR
designator U?
5-V Multichannel RS-232 Line Driver / Receiver with ±15-kV ESD Protection, 0 to 70 degC, 28-Pin SSOP (DB), Green (RoHS & no Sb/Br); Drivers Per Package: 4; Receivers Per Package: 5; ESD HBM(kV): +/-15; ICC(Max)(mA): 20; Single Supply: TRUE; DatasheetVersion: SLLS567E; PackageVersion: revE, Dec-2001; PackageReference: DB28; PackageDescription: 28-Pin Plastic Small Outline Package, 10.2 x 5.3 mm Body, 0.65 mm Pitch; SubFamily: RS-232; Supply Voltage(s)(V): 5; RS-232: TRUE; ComponentLink1Description: Manufacturer URL; ComponentLink1URL: www.ti.com; ComponentLink2Description: Datasheet; ComponentLink2URL: http://www.ti.com/general/docs/lit/getliterature.tsp?genericPartNumber=MAX211&fileType=pdf; ComponentLink3Description: Package Specification; ComponentLink3URL: http://www.ti.com/litv/pdf/msso002e
footprint TI-DB28_N (SOP, 28-Leads, Body 10.2x5.3mm, Pitch 0.65mm, IPC Medium Density)
footprint TI-DB28_L (SOP, 28-Leads, Body 10.2x5.3mm, Pitch 0.65mm, IPC High Density)
footprint TI-DB28_M (SOP, 28-Leads, Body 10.2x5.3mm, Pitch 0.65mm, IPC Low Density)
pins: 1 DOUT3 (hiz), 2 DOUT1 (hiz), 3 DOUT2 (hiz), 4 RIN2 (in), 5 ROUT2 (hiz), 6 DIN2 (in), 7 DIN1 (in), 8 ROUT1 (hiz), 9 RIN1 (in), 10 GND (power), 11 VCC (power), 12 C1+, 13 V+ (power), 14 C1-, 15 C2+, 16 C2-, 17 V- (power), 18 RIN5 (in), 19 ROUT5 (hiz), 20 DIN3 (in), 21 DIN4 (in), 22 ROUT4 (hiz), 23 RIN4 (in), 24 ~{EN} (in), 25 SHDN (in), 26 ROUT3 (hiz), 27 RIN3 (in), 28 DOUT4 (hiz)

## MAX211CDBRE4
designator U?
5-V Multichannel RS-232 Line Driver / Receiver with ±15-kV ESD Protection, 0 to 70 degC, 28-Pin SSOP (DB), Green (RoHS & no Sb/Br); Drivers Per Package: 4; Receivers Per Package: 5; ESD HBM(kV): +/-15; ICC(Max)(mA): 20; Single Supply: TRUE; DatasheetVersion: SLLS567E; PackageVersion: revE, Dec-2001; PackageReference: DB28; PackageDescription: 28-Pin Plastic Small Outline Package, 10.2 x 5.3 mm Body, 0.65 mm Pitch; SubFamily: RS-232; Supply Voltage(s)(V): 5; RS-232: TRUE; ComponentLink1Description: Manufacturer URL; ComponentLink1URL: www.ti.com; ComponentLink2Description: Datasheet; ComponentLink2URL: http://www.ti.com/general/docs/lit/getliterature.tsp?genericPartNumber=MAX211&fileType=pdf; ComponentLink3Description: Package Specification; ComponentLink3URL: http://www.ti.com/litv/pdf/msso002e
footprint TI-DB28_N (SOP, 28-Leads, Body 10.2x5.3mm, Pitch 0.65mm, IPC Medium Density)
footprint TI-DB28_L (SOP, 28-Leads, Body 10.2x5.3mm, Pitch 0.65mm, IPC High Density)
footprint TI-DB28_M (SOP, 28-Leads, Body 10.2x5.3mm, Pitch 0.65mm, IPC Low Density)
pins: 1 DOUT3 (hiz), 2 DOUT1 (hiz), 3 DOUT2 (hiz), 4 RIN2 (in), 5 ROUT2 (hiz), 6 DIN2 (in), 7 DIN1 (in), 8 ROUT1 (hiz), 9 RIN1 (in), 10 GND (power), 11 VCC (power), 12 C1+, 13 V+ (power), 14 C1-, 15 C2+, 16 C2-, 17 V- (power), 18 RIN5 (in), 19 ROUT5 (hiz), 20 DIN3 (in), 21 DIN4 (in), 22 ROUT4 (hiz), 23 RIN4 (in), 24 ~{EN} (in), 25 SHDN (in), 26 ROUT3 (hiz), 27 RIN3 (in), 28 DOUT4 (hiz)

## MAX211CDBRG4
designator U?
5-V Multichannel RS-232 Line Driver / Receiver with ±15-kV ESD Protection, 0 to 70 degC, 28-Pin SSOP (DB), Green (RoHS & no Sb/Br); Drivers Per Package: 4; Receivers Per Package: 5; ESD HBM(kV): +/-15; ICC(Max)(mA): 20; Single Supply: TRUE; DatasheetVersion: SLLS567E; PackageVersion: revE, Dec-2001; PackageReference: DB28; PackageDescription: 28-Pin Plastic Small Outline Package, 10.2 x 5.3 mm Body, 0.65 mm Pitch; SubFamily: RS-232; Supply Voltage(s)(V): 5; RS-232: TRUE; ComponentLink1Description: Manufacturer URL; ComponentLink1URL: www.ti.com; ComponentLink2Description: Datasheet; ComponentLink2URL: http://www.ti.com/general/docs/lit/getliterature.tsp?genericPartNumber=MAX211&fileType=pdf; ComponentLink3Description: Package Specification; ComponentLink3URL: http://www.ti.com/litv/pdf/msso002e
footprint TI-DB28_N (SOP, 28-Leads, Body 10.2x5.3mm, Pitch 0.65mm, IPC Medium Density)
footprint TI-DB28_L (SOP, 28-Leads, Body 10.2x5.3mm, Pitch 0.65mm, IPC High Density)
footprint TI-DB28_M (SOP, 28-Leads, Body 10.2x5.3mm, Pitch 0.65mm, IPC Low Density)
pins: 1 DOUT3 (hiz), 2 DOUT1 (hiz), 3 DOUT2 (hiz), 4 RIN2 (in), 5 ROUT2 (hiz), 6 DIN2 (in), 7 DIN1 (in), 8 ROUT1 (hiz), 9 RIN1 (in), 10 GND (power), 11 VCC (power), 12 C1+, 13 V+ (power), 14 C1-, 15 C2+, 16 C2-, 17 V- (power), 18 RIN5 (in), 19 ROUT5 (hiz), 20 DIN3 (in), 21 DIN4 (in), 22 ROUT4 (hiz), 23 RIN4 (in), 24 ~{EN} (in), 25 SHDN (in), 26 ROUT3 (hiz), 27 RIN3 (in), 28 DOUT4 (hiz)

## MAX211CDW
designator U?
5-V Multichannel RS-232 Line Driver / Receiver with ±15-kV ESD Protection, 0 to 70 degC, 28-Pin SOIC (DW), Green (RoHS & no Sb/Br); Drivers Per Package: 4; Receivers Per Package: 5; ESD HBM(kV): +/-15; ICC(Max)(mA): 20; Single Supply: TRUE; DatasheetVersion: SLLS567E; PackageVersion: revG, Jan-2011; PackageReference: DW28; PackageDescription: 28-Pin Plastic Small Outline Integrated Circuit, 17.9 x 7.5 mm, Pitch 1.27 mm Pitch; SubFamily: RS-232; Supply Voltage(s)(V): 5; RS-232: TRUE; ComponentLink1Description: Manufacturer URL; ComponentLink1URL: www.ti.com; ComponentLink2Description: Datasheet; ComponentLink2URL: http://www.ti.com/general/docs/lit/getliterature.tsp?genericPartNumber=MAX211&fileType=pdf; ComponentLink3Description: Package Specification; ComponentLink3URL: http://www.ti.com/litv/pdf/mpds175a
footprint TI-DW28_N (SOIC, 28-Leads, Body 17.9x7.5mm, Pitch 1.27mm, IPC Medium Density)
footprint TI-DW28_L (SOIC, 28-Leads, Body 17.9x7.5mm, Pitch 1.27mm, IPC High Density)
footprint TI-DW28_M (SOIC, 28-Leads, Body 17.9x7.5mm, Pitch 1.27mm, IPC Low Density)
pins: 1 DOUT3 (hiz), 2 DOUT1 (hiz), 3 DOUT2 (hiz), 4 RIN2 (in), 5 ROUT2 (hiz), 6 DIN2 (in), 7 DIN1 (in), 8 ROUT1 (hiz), 9 RIN1 (in), 10 GND (power), 11 VCC (power), 12 C1+, 13 V+ (power), 14 C1-, 15 C2+, 16 C2-, 17 V- (power), 18 RIN5 (in), 19 ROUT5 (hiz), 20 DIN3 (in), 21 DIN4 (in), 22 ROUT4 (hiz), 23 RIN4 (in), 24 ~{EN} (in), 25 SHDN (in), 26 ROUT3 (hiz), 27 RIN3 (in), 28 DOUT4 (hiz)

## MAX211CDWE4
designator U?
5-V Multichannel RS-232 Line Driver / Receiver with ±15-kV ESD Protection, 0 to 70 degC, 28-Pin SOIC (DW), Green (RoHS & no Sb/Br); Drivers Per Package: 4; Receivers Per Package: 5; ESD HBM(kV): +/-15; ICC(Max)(mA): 20; Single Supply: TRUE; DatasheetVersion: SLLS567E; PackageVersion: revG, Jan-2011; PackageReference: DW28; PackageDescription: 28-Pin Plastic Small Outline Integrated Circuit, 17.9 x 7.5 mm, Pitch 1.27 mm Pitch; SubFamily: RS-232; Supply Voltage(s)(V): 5; RS-232: TRUE; ComponentLink1Description: Manufacturer URL; ComponentLink1URL: www.ti.com; ComponentLink2Description: Datasheet; ComponentLink2URL: http://www.ti.com/general/docs/lit/getliterature.tsp?genericPartNumber=MAX211&fileType=pdf; ComponentLink3Description: Package Specification; ComponentLink3URL: http://www.ti.com/litv/pdf/mpds175a
footprint TI-DW28_N (SOIC, 28-Leads, Body 17.9x7.5mm, Pitch 1.27mm, IPC Medium Density)
footprint TI-DW28_L (SOIC, 28-Leads, Body 17.9x7.5mm, Pitch 1.27mm, IPC High Density)
footprint TI-DW28_M (SOIC, 28-Leads, Body 17.9x7.5mm, Pitch 1.27mm, IPC Low Density)
pins: 1 DOUT3 (hiz), 2 DOUT1 (hiz), 3 DOUT2 (hiz), 4 RIN2 (in), 5 ROUT2 (hiz), 6 DIN2 (in), 7 DIN1 (in), 8 ROUT1 (hiz), 9 RIN1 (in), 10 GND (power), 11 VCC (power), 12 C1+, 13 V+ (power), 14 C1-, 15 C2+, 16 C2-, 17 V- (power), 18 RIN5 (in), 19 ROUT5 (hiz), 20 DIN3 (in), 21 DIN4 (in), 22 ROUT4 (hiz), 23 RIN4 (in), 24 ~{EN} (in), 25 SHDN (in), 26 ROUT3 (hiz), 27 RIN3 (in), 28 DOUT4 (hiz)

## MAX211CDWG4
designator U?
5-V Multichannel RS-232 Line Driver / Receiver with ±15-kV ESD Protection, 0 to 70 degC, 28-Pin SOIC (DW), Green (RoHS & no Sb/Br); Drivers Per Package: 4; Receivers Per Package: 5; ESD HBM(kV): +/-15; ICC(Max)(mA): 20; Single Supply: TRUE; DatasheetVersion: SLLS567E; PackageVersion: revG, Jan-2011; PackageReference: DW28; PackageDescription: 28-Pin Plastic Small Outline Integrated Circuit, 17.9 x 7.5 mm, Pitch 1.27 mm Pitch; SubFamily: RS-232; Supply Voltage(s)(V): 5; RS-232: TRUE; ComponentLink1Description: Manufacturer URL; ComponentLink1URL: www.ti.com; ComponentLink2Description: Datasheet; ComponentLink2URL: http://www.ti.com/general/docs/lit/getliterature.tsp?genericPartNumber=MAX211&fileType=pdf; ComponentLink3Description: Package Specification; ComponentLink3URL: http://www.ti.com/litv/pdf/mpds175a
footprint TI-DW28_N (SOIC, 28-Leads, Body 17.9x7.5mm, Pitch 1.27mm, IPC Medium Density)
footprint TI-DW28_L (SOIC, 28-Leads, Body 17.9x7.5mm, Pitch 1.27mm, IPC High Density)
footprint TI-DW28_M (SOIC, 28-Leads, Body 17.9x7.5mm, Pitch 1.27mm, IPC Low Density)
pins: 1 DOUT3 (hiz), 2 DOUT1 (hiz), 3 DOUT2 (hiz), 4 RIN2 (in), 5 ROUT2 (hiz), 6 DIN2 (in), 7 DIN1 (in), 8 ROUT1 (hiz), 9 RIN1 (in), 10 GND (power), 11 VCC (power), 12 C1+, 13 V+ (power), 14 C1-, 15 C2+, 16 C2-, 17 V- (power), 18 RIN5 (in), 19 ROUT5 (hiz), 20 DIN3 (in), 21 DIN4 (in), 22 ROUT4 (hiz), 23 RIN4 (in), 24 ~{EN} (in), 25 SHDN (in), 26 ROUT3 (hiz), 27 RIN3 (in), 28 DOUT4 (hiz)

## MAX211CDWR
designator U?
5-V Multichannel RS-232 Line Driver / Receiver with ±15-kV ESD Protection, 0 to 70 degC, 28-Pin SOIC (DW), Green (RoHS & no Sb/Br); Drivers Per Package: 4; Receivers Per Package: 5; ESD HBM(kV): +/-15; ICC(Max)(mA): 20; Single Supply: TRUE; DatasheetVersion: SLLS567E; PackageVersion: revG, Jan-2011; PackageReference: DW28; PackageDescription: 28-Pin Plastic Small Outline Integrated Circuit, 17.9 x 7.5 mm, Pitch 1.27 mm Pitch; SubFamily: RS-232; Supply Voltage(s)(V): 5; RS-232: TRUE; ComponentLink1Description: Manufacturer URL; ComponentLink1URL: www.ti.com; ComponentLink2Description: Datasheet; ComponentLink2URL: http://www.ti.com/general/docs/lit/getliterature.tsp?genericPartNumber=MAX211&fileType=pdf; ComponentLink3Description: Package Specification; ComponentLink3URL: http://www.ti.com/litv/pdf/mpds175a
footprint TI-DW28_N (SOIC, 28-Leads, Body 17.9x7.5mm, Pitch 1.27mm, IPC Medium Density)
footprint TI-DW28_L (SOIC, 28-Leads, Body 17.9x7.5mm, Pitch 1.27mm, IPC High Density)
footprint TI-DW28_M (SOIC, 28-Leads, Body 17.9x7.5mm, Pitch 1.27mm, IPC Low Density)
pins: 1 DOUT3 (hiz), 2 DOUT1 (hiz), 3 DOUT2 (hiz), 4 RIN2 (in), 5 ROUT2 (hiz), 6 DIN2 (in), 7 DIN1 (in), 8 ROUT1 (hiz), 9 RIN1 (in), 10 GND (power), 11 VCC (power), 12 C1+, 13 V+ (power), 14 C1-, 15 C2+, 16 C2-, 17 V- (power), 18 RIN5 (in), 19 ROUT5 (hiz), 20 DIN3 (in), 21 DIN4 (in), 22 ROUT4 (hiz), 23 RIN4 (in), 24 ~{EN} (in), 25 SHDN (in), 26 ROUT3 (hiz), 27 RIN3 (in), 28 DOUT4 (hiz)

## MAX211CDWRE4
designator U?
5-V Multichannel RS-232 Line Driver / Receiver with ±15-kV ESD Protection, 0 to 70 degC, 28-Pin SOIC (DW), Green (RoHS & no Sb/Br); Drivers Per Package: 4; Receivers Per Package: 5; ESD HBM(kV): +/-15; ICC(Max)(mA): 20; Single Supply: TRUE; DatasheetVersion: SLLS567E; PackageVersion: revG, Jan-2011; PackageReference: DW28; PackageDescription: 28-Pin Plastic Small Outline Integrated Circuit, 17.9 x 7.5 mm, Pitch 1.27 mm Pitch; SubFamily: RS-232; Supply Voltage(s)(V): 5; RS-232: TRUE; ComponentLink1Description: Manufacturer URL; ComponentLink1URL: www.ti.com; ComponentLink2Description: Datasheet; ComponentLink2URL: http://www.ti.com/general/docs/lit/getliterature.tsp?genericPartNumber=MAX211&fileType=pdf; ComponentLink3Description: Package Specification; ComponentLink3URL: http://www.ti.com/litv/pdf/mpds175a
footprint TI-DW28_N (SOIC, 28-Leads, Body 17.9x7.5mm, Pitch 1.27mm, IPC Medium Density)
footprint TI-DW28_L (SOIC, 28-Leads, Body 17.9x7.5mm, Pitch 1.27mm, IPC High Density)
footprint TI-DW28_M (SOIC, 28-Leads, Body 17.9x7.5mm, Pitch 1.27mm, IPC Low Density)
pins: 1 DOUT3 (hiz), 2 DOUT1 (hiz), 3 DOUT2 (hiz), 4 RIN2 (in), 5 ROUT2 (hiz), 6 DIN2 (in), 7 DIN1 (in), 8 ROUT1 (hiz), 9 RIN1 (in), 10 GND (power), 11 VCC (power), 12 C1+, 13 V+ (power), 14 C1-, 15 C2+, 16 C2-, 17 V- (power), 18 RIN5 (in), 19 ROUT5 (hiz), 20 DIN3 (in), 21 DIN4 (in), 22 ROUT4 (hiz), 23 RIN4 (in), 24 ~{EN} (in), 25 SHDN (in), 26 ROUT3 (hiz), 27 RIN3 (in), 28 DOUT4 (hiz)

## MAX211CDWRG4
designator U?
5-V Multichannel RS-232 Line Driver / Receiver with ±15-kV ESD Protection, 0 to 70 degC, 28-Pin SOIC (DW), Green (RoHS & no Sb/Br); Drivers Per Package: 4; Receivers Per Package: 5; ESD HBM(kV): +/-15; ICC(Max)(mA): 20; Single Supply: TRUE; DatasheetVersion: SLLS567E; PackageVersion: revG, Jan-2011; PackageReference: DW28; PackageDescription: 28-Pin Plastic Small Outline Integrated Circuit, 17.9 x 7.5 mm, Pitch 1.27 mm Pitch; SubFamily: RS-232; Supply Voltage(s)(V): 5; RS-232: TRUE; ComponentLink1Description: Manufacturer URL; ComponentLink1URL: www.ti.com; ComponentLink2Description: Datasheet; ComponentLink2URL: http://www.ti.com/general/docs/lit/getliterature.tsp?genericPartNumber=MAX211&fileType=pdf; ComponentLink3Description: Package Specification; ComponentLink3URL: http://www.ti.com/litv/pdf/mpds175a
footprint TI-DW28_N (SOIC, 28-Leads, Body 17.9x7.5mm, Pitch 1.27mm, IPC Medium Density)
footprint TI-DW28_L (SOIC, 28-Leads, Body 17.9x7.5mm, Pitch 1.27mm, IPC High Density)
footprint TI-DW28_M (SOIC, 28-Leads, Body 17.9x7.5mm, Pitch 1.27mm, IPC Low Density)
pins: 1 DOUT3 (hiz), 2 DOUT1 (hiz), 3 DOUT2 (hiz), 4 RIN2 (in), 5 ROUT2 (hiz), 6 DIN2 (in), 7 DIN1 (in), 8 ROUT1 (hiz), 9 RIN1 (in), 10 GND (power), 11 VCC (power), 12 C1+, 13 V+ (power), 14 C1-, 15 C2+, 16 C2-, 17 V- (power), 18 RIN5 (in), 19 ROUT5 (hiz), 20 DIN3 (in), 21 DIN4 (in), 22 ROUT4 (hiz), 23 RIN4 (in), 24 ~{EN} (in), 25 SHDN (in), 26 ROUT3 (hiz), 27 RIN3 (in), 28 DOUT4 (hiz)